# Altium integrated library DIP-18 DS1019-18N.IntLib: 1 symbol
Pins are listed as number, name and electrical type; pins without a type are passive.

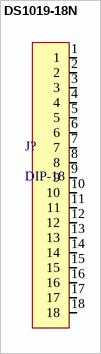
[diagram p0: symbol DS1019-18N]

## DS1019-18N
designator J?, comment DIP-18
footprint DS1019-18N
pins: 1, 2, 3, 4, 5, 6, 7, 8, 9, 10, 11, 12, 13, 14, 15, 16, 17, 18